# Altium schematic symbol library Schlib1.SchLib: 10 symbols
Pins are listed as number, name and electrical type; pins without a type are passive.

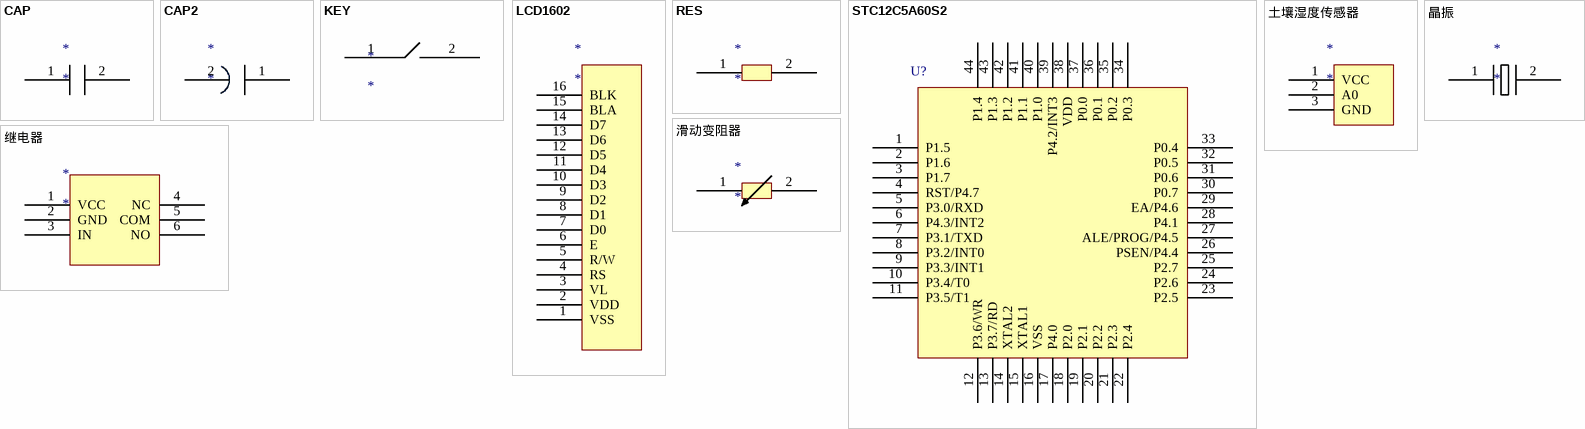
[diagram p0: symbols CAP to 继电器]

## CAP
designator *
pins: 1, 2

## CAP2
designator *
pins: 1, 2

## KEY
designator *
pins: 1, 2

## LCD1602
designator *
pins: 1 VSS, 2 VDD, 3 VL, 4 RS, 5 R/W, 6 E, 7 D0, 8 D1, 9 D2, 10 D3, 11 D4, 12 D5, 13 D6, 14 D7, 15 BLA, 16 BLK

## RES
designator *
pins: 1, 2

## STC12C5A60S2
designator U?
pins: 1 P1.5, 2 P1.6, 3 P1.7, 4 RST/P4.7, 5 P3.0/RXD, 6 P4.3/INT2, 7 P3.1/TXD, 8 P3.2/INT0, 9 P3.3/INT1, 10 P3.4/T0, 11 P3.5/T1, 12 P3.6/WR, 13 P3.7/RD, 14 XTAL2, 15 XTAL1, 16 VSS, 17 P4.0, 18 P2.0, 19 P2.1, 20 P2.2, 21 P2.3, 22 P2.4, 23 P2.5, 24 P2.6, 25 P2.7, 26 PSEN/P4.4, 27 ALE/PROG/P4.5, 28 P4.1, 29 EA/P4.6, 30 P0.7, 31 P0.6, 32 P0.5, 33 P0.4, 34 P0.3, 35 P0.2, 36 P0.1, 37 P0.0, 38 VDD, 39 P4.2/INT3, 40 P1.0, 41 P1.1, 42 P1.2, 43 P1.3, 44 P1.4

## 土壤湿度传感器
designator *
pins: 1 VCC, 2 A0, 3 GND

## 晶振
designator *
pins: 1, 2

## 滑动变阻器
designator *
pins: 1, 2

## 继电器
designator *
pins: 1 VCC, 2 GND, 3 IN, 4 NC, 5 COM, 6 NO